# EAGLE library part SC310 (library FiveVolt)
High-Side Current-Sense Amplifier with Low Impedance Voltage Output
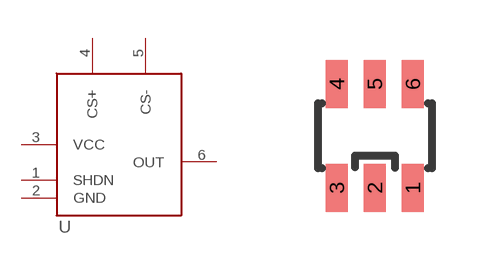
[diagram p3: symbol with the pads of SOT23-6; footprint SOT23-6]

Designator prefix -

## SC310  [SOT23-6]
1  SHDN
2  GND
3  VCC
4  CS+
5  CS-
6  OUT

## Footprint SOT23-6 (pad centres in mm)
smd 0.55 x 1.2: 1 0.95,-1.3; 2 0,-1.3; 3 -0.95,-1.3; 4 -0.95,1.3; 5 0,1.3; 6 0.95,1.3